# Altium footprint library CLAP.PcbLib: 265 footprints (part 11 of 17)
Each footprint in its own frame and in the unit in brackets; x right, y up, seen from the top. Pads: shape width x height; smd on the part's side, far side on the other; paste and mask are expansions set on the pad; w line width, h text height; cw(c..) or ccw(c..) is an arc to the next point about the centre after c.
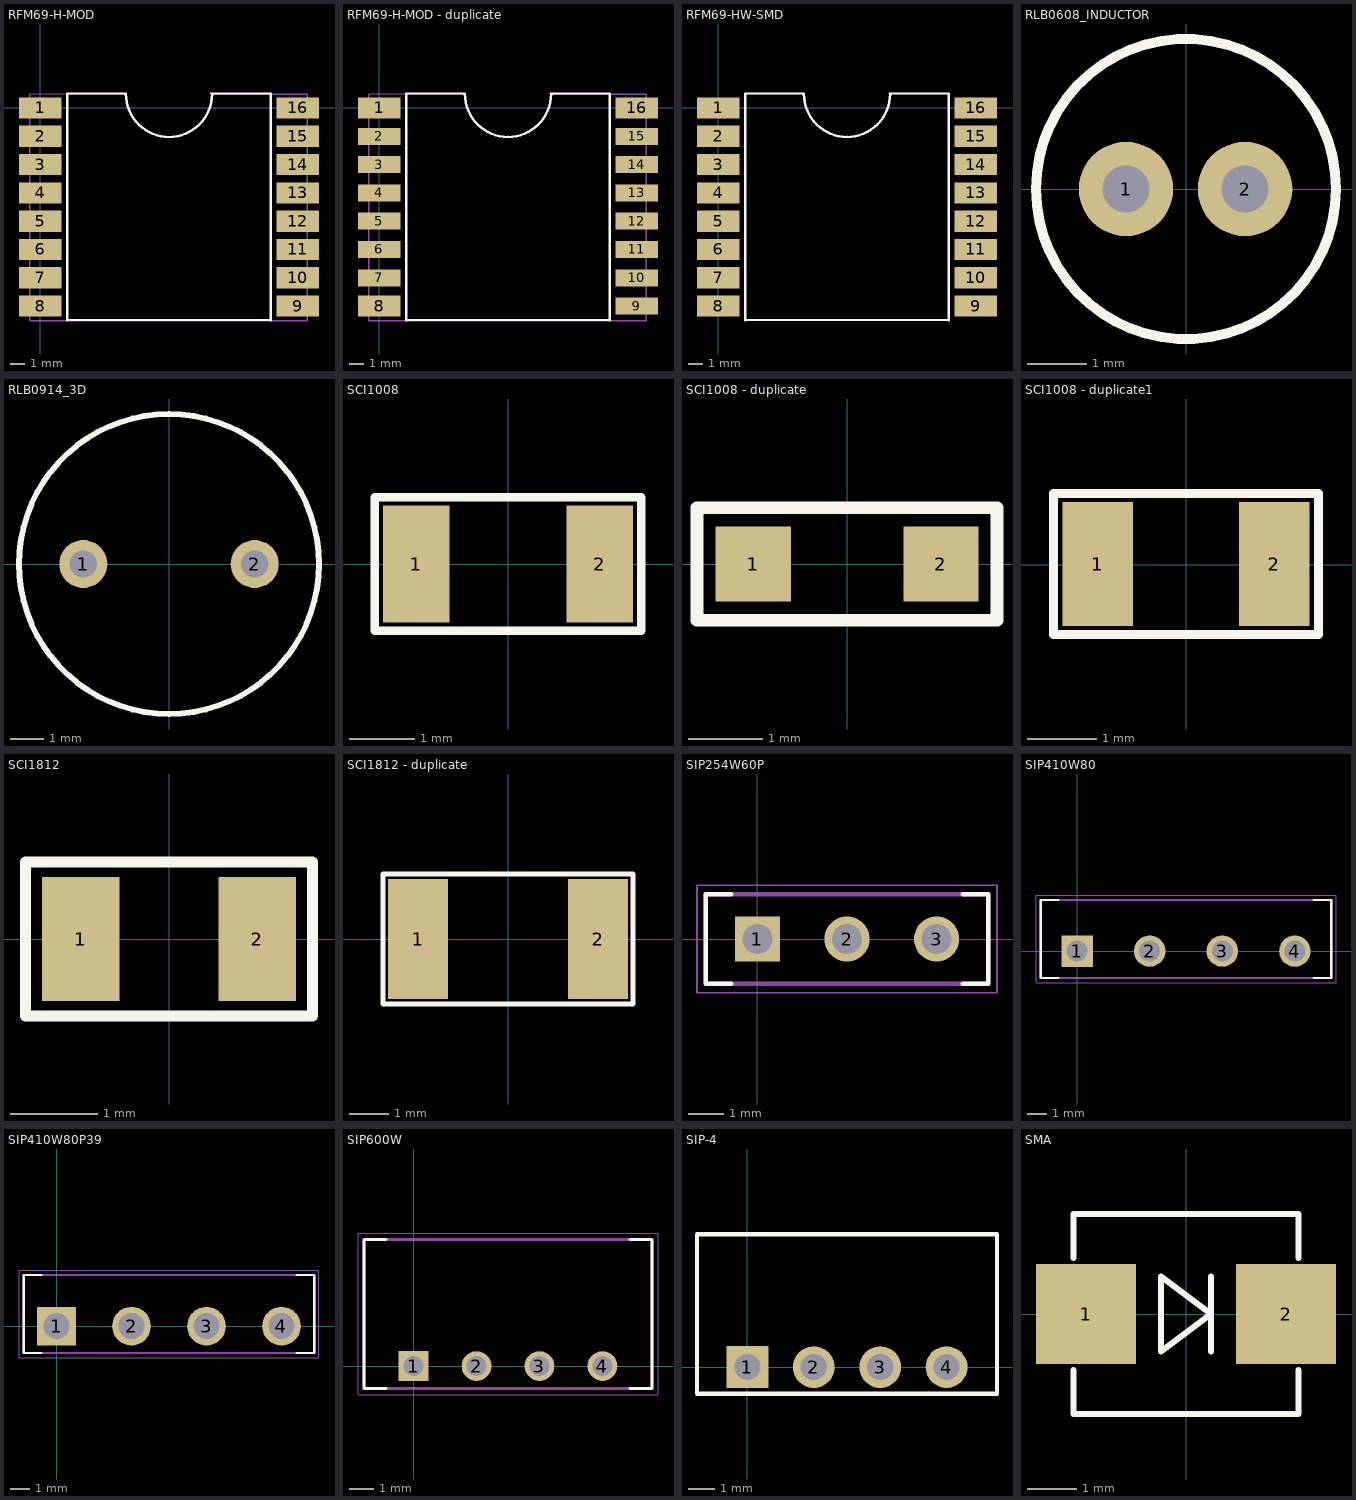
[diagram p10: the footprints below, top view; thin cyan lines are the x and y axes]

## RFM69-H-MOD [mm]
height 0.048
pads (16):
  rect 3x1.5 smd: 1(0,0) 2(0,-2) 3(0,-4) 4(0,-6) 5(0,-8) 6(0,-10) 7(0,-12) 8(0,-14) 9(18.2,-14) 10(18.2,-12) 11(18.2,-10) 12(18.2,-8) 13(18.2,-6) 14(18.2,-4) 15(18.2,-2) 16(18.2,0)
Top Overlay:
  lines w0.17: 1.9,-15 1.9,1 ; 1.9,-14.98 16.3,-14.98 ; 1.9,1.02 6,1.02 ; 6.052,1 ccw(c9.1,1) 12.148,1 ; 12.1,1.02 16.3,1.02 ; 16.3,-15 16.3,1
Mechanical 1:
  lines w0.1: 12.148,1 cw(c9.1,1) 6.052,1 -0.74,0.98 -0.74,-15.02 18.86,-15.02 18.86,0.98 12.16,0.98
3D body "RFM69W.STEP": height 1.9, standoff 0, extent -0.85,-15 18.85,1

## RFM69-H-MOD - duplicate [mm]
height 2
pads (16):
  rect 3x1.5 smd: 1(0,0) 8(0,-14) 16(18.2,0)
  rect 3x1.2 smd: 2(0,-2) 3(0,-4) 4(0,-6) 5(0,-8) 6(0,-10) 7(0,-12) 9(18.2,-14) 10(18.2,-12) 11(18.2,-10) 12(18.2,-8) 13(18.2,-6) 14(18.2,-4) 15(18.2,-2)
Top Overlay:
  lines w0.17: 1.9,-15 1.9,1 ; 1.9,-14.98 16.3,-14.98 ; 1.9,1.02 6,1.02 ; 6.052,1 ccw(c9.1,1) 12.148,1 ; 12.1,1.02 16.3,1.02 ; 16.3,-15 16.3,1
Mechanical 1:
  lines w0.1: 12.148,1 cw(c9.1,1) 6.052,1 -0.74,0.98 -0.74,-15.02 18.86,-15.02 18.86,0.98 12.16,0.98
3D body "RFM69W.STEP": height 1.9, standoff 0, extent -0.85,-15 18.85,1

## RFM69-HW-SMD [mm]
height 0.048
pads (16):
  rect 3x1.5 smd: 1(0,0) 2(0,-2) 3(0,-4) 4(0,-6) 5(0,-8) 6(0,-10) 7(0,-12) 8(0,-14) 9(18.2,-14) 10(18.2,-12) 11(18.2,-10) 12(18.2,-8) 13(18.2,-6) 14(18.2,-4) 15(18.2,-2) 16(18.2,0)
Top Overlay:
  lines w0.17: 1.9,-15 1.9,1 ; 1.9,-14.98 16.3,-14.98 ; 1.9,1.02 6,1.02 ; 6.052,1 ccw(c9.1,1) 12.148,1 ; 12.1,1.02 16.3,1.02 ; 16.3,-15 16.3,1
3D body "RFM69W.STEP": height 1.9, standoff 0, extent -0.85,-15 18.85,1

## RLB0608_INDUCTOR [mm]
height 0.165
pads (2):
  round 1.6 hole 0.8: 1(-1.016,0) 2(1,0)
Top Overlay:
  circle w0.17: c0,0 r2.54
Mechanical 1:
  circle w0.1: c0,0 r2.54

## RLB0914_3D [mil]
pads (2):
  round 56 hole 32: 1(-100,0) 2(100,0)
Top Overlay:
  circle w6.69: c0,0 r175
Mechanical 1:
  circle w3.94: c0,0 r175
3D body "INDRD508W55D850H1250.STEP": height 492.13, standoff -78.74, extent -167.32,-167.32 167.32,167.32

## SCI1008 [mil]
pads (2):
  rect 40x70 smd: 1(-55,0) 2(55,0)
Top Overlay:
  lines w5: -80,-40 80,-40 80,40 -80,40 -80,-40
3D body "L_1206_3216Metric.step": height 62.99, standoff 0, extent -62.99,-31.5 62.99,31.49

## SCI1008 - duplicate [mil]
pads (2):
  rect 40x40 smd: 1(-50,0) 2(50,0)
Top Overlay:
  lines w6.69: -80,-30 -80,30 80,30 80,-30 -80,-30
Mechanical 1:
  lines w3.94: -80,-30 -80,30 80,30 80,-30 -80,-30

## SCI1008 - duplicate1 [mil]
pads (2):
  rect 40x70 smd: 1(-50,0.5) 2(50,0.5)
Top Overlay:
  lines w5: -75,40 -75,-39.5 75,-39.5 75,40 ; -75,40.5 75,40.5
3D body "L_0805_2012Metric.step": height 49.21, standoff 0, extent -39.37,-24.6 39.37,24.61

## SCI1812 [mil]
pads (2):
  rect 35x56 smd: 1(-40,0) 2(40,0)
Top Overlay:
  lines w5: -65,-35 65,-35 65,35 -65,35 -65,-35
3D body "L_0805_2012Metric.step": height 49.21, standoff 0, extent -39.38,-24.61 39.36,24.6

## SCI1812 - duplicate [mil]
pads (2):
  rect 60x120 smd: 1(-90,0) 2(90,0)
Top Overlay:
  lines w5: -125,-65 -125,65 125,65 125,-65 -125,-65
3D body "L_1812_4532Metric.step": height 98.43, standoff 0, extent -88.58,-62.99 88.59,63

## SIP254W60P [mm] "SIP, 2.54 mm pitch; 3 pin, 8.00 mm L X 2.54 mm W X 7.00 mm H body"
height 7
pads (3):
  rect 1.28x1.28 hole 0.85 paste-1.28: 1(0,0)
  round 1.28 hole 0.85 paste-1.28: 2(2.54,0) 3(5.08,0)
Top Overlay:
  lines w0.12: -0.74,-1.27 -1.46,-1.27 -1.46,1.27 -0.74,1.27 ; 5.82,-1.27 6.54,-1.27 6.54,1.27 5.82,1.27
Mechanical 11:
  lines w0.12: -1.46,-1.27 6.54,-1.27 6.54,1.27 -1.46,1.27 -1.46,-1.27
Mechanical 12:
  circle w0.025: c5.08,0 r0.325
  circle w0.025: c2.54,0 r0.325
  circle w0.025: c0,0 r0.325
  lines w0.025: -1.46,-1.27 6.54,-1.27 6.54,1.27 -1.46,1.27 -1.46,-1.27
Mechanical 15:
  circle w0.05: c0,0 r0.25
  lines w0.05: -0.35,0 0.35,0 ; 0,-0.35 0,0.35 ; -1.71,-1.52 6.79,-1.52 6.79,1.52 -1.71,1.52 -1.71,-1.52
Mechanical 16:
  text ".Designator" at 0,0 h1.2
3D body "SIP254W60P.STEP": height 7, standoff -2, extent -1.46,-1.27 6.54,1.27

## SIP410W80 [mm] "SIP, 3.81 mm pitch; 4 pin, 15.24 mm L X 4.10 mm W X 11.70 mm H body"
height 11.7
pads (4):
  rect 1.65x1.65 hole 1.1 paste-1.65: 1(0,0)
  round 1.65 hole 1.1 paste-1.65: 2(3.81,0) 3(7.62,0) 4(11.43,0)
Top Overlay:
  lines w0.12: -0.975,-1.415 -1.905,-1.415 -1.905,2.685 -0.975,2.685 ; 12.405,-1.415 13.335,-1.415 13.335,2.685 12.405,2.685
Mechanical 11:
  lines w0.12: -1.905,-1.415 -1.905,2.685 13.335,2.685 13.335,-1.415 -1.905,-1.415
Mechanical 12:
  circle w0.025: c0,0 r0.45
  circle w0.025: c3.81,0 r0.45
  circle w0.025: c7.62,0 r0.45
  circle w0.025: c11.43,0 r0.45
  lines w0.025: -1.905,-1.415 -1.905,2.685 13.335,2.685 13.335,-1.415 -1.905,-1.415
Mechanical 15:
  circle w0.05: c0,0 r0.25
  lines w0.05: -0.35,0 0.35,0 ; 0,-0.35 0,0.35 ; -2.16,-1.67 -2.16,2.94 13.59,2.94 13.59,-1.67 -2.16,-1.67
Mechanical 16:
  text ".Designator" at 0,0 h1.2
3D body "SIP410W80.STEP": height 11.7, standoff -2, extent -1.905,-1.415 13.335,2.685

## SIP410W80P39 [mm] "SIP, 3.937 mm pitch; 4 pin, 15.24 mm L X 4.10 mm W X 11.70 mm H body"
height 11.7
pads (4):
  rect 2.03x2.03 hole 1.35 paste-2.03: 1(0,0)
  round 2.03 hole 1.35 paste-2.03: 2(3.937,0) 3(7.874,0) 4(11.811,0)
Top Overlay:
  lines w0.12: -0.784,-1.415 -1.714,-1.415 -1.714,2.685 -0.784,2.685 ; 12.595,-1.415 13.525,-1.415 13.525,2.685 12.595,2.685
Mechanical 11:
  lines w0.12: -1.714,-1.415 -1.714,2.685 13.525,2.685 13.525,-1.415 -1.714,-1.415
Mechanical 12:
  lines w0.025: -1.714,-1.415 -1.714,2.685 13.525,2.685 13.525,-1.415 -1.714,-1.415 ; -0.45,-0.4 0.45,-0.4 0.45,0.4 -0.45,0.4 -0.45,-0.4 ; 3.487,-0.4 4.387,-0.4 4.387,0.4 3.487,0.4 3.487,-0.4 ; 7.424,-0.4 8.324,-0.4 8.324,0.4 7.424,0.4 7.424,-0.4 ; 11.361,-0.4 12.261,-0.4 12.261,0.4 11.361,0.4 11.361,-0.4
Mechanical 15:
  circle w0.05: c0,0 r0.25
  lines w0.05: -0.35,0 0.35,0 ; 0,-0.35 0,0.35 ; -1.97,-1.67 -1.97,2.94 13.78,2.94 13.78,-1.67 -1.97,-1.67
Mechanical 16:
  text ".Designator" at 0,0 h1.2
3D body "SIP410W80P39.STEP": height 11.7, standoff -2, extent -1.714,-1.415 13.525,2.685

## SIP600W [mm] "SIP, 2.54 mm pitch; 4 pin, 11.60 mm L X 6.00 mm W X 10.20 mm H body"
height 10.2
pads (4):
  rect 1.2x1.2 hole 0.8 paste-1.2: 1(0,0)
  round 1.2 hole 0.8 paste-1.2: 2(2.54,0) 3(5.08,0) 4(7.62,0)
Top Overlay:
  lines w0.12: -1.11,-0.9 -1.99,-0.9 -1.99,5.1 -1.11,5.1 ; 8.73,-0.9 9.61,-0.9 9.61,5.1 8.73,5.1
Mechanical 11:
  lines w0.12: -1.99,-0.9 9.61,-0.9 9.61,5.1 -1.99,5.1 -1.99,-0.9
Mechanical 12:
  circle w0.025: c7.62,0 r0.3
  circle w0.025: c5.08,0 r0.3
  circle w0.025: c2.54,0 r0.3
  circle w0.025: c0,0 r0.3
  lines w0.025: -1.99,-0.9 9.61,-0.9 9.61,5.1 -1.99,5.1 -1.99,-0.9
Mechanical 15:
  circle w0.05: c0,0 r0.25
  lines w0.05: -0.35,0 0.35,0 ; 0,-0.35 0,0.35 ; -2.24,-1.15 9.86,-1.15 9.86,5.35 -2.24,5.35 -2.24,-1.15
Mechanical 16:
  text ".Designator" at 0,0 h1.2
3D body "SIP600W.STEP": height 10.2, standoff -2, extent -1.99,-0.9 9.61,5.1

## SIP-4 [mm]
height 0.259
pads (4):
  rect 1.6x1.6 hole 1: 1(0,0)
  round 1.6 hole 1: 2(2.54,0) 3(5.08,0) 4(7.62,0)
Top Overlay:
  lines w0.17: -1.93,-1.016 -1.93,5.08 9.55,5.08 9.55,-1.016 -1.93,-1.016
Mechanical 1:
  lines w0.1: -1.93,-1.016 -1.93,5.08 9.55,5.08 9.55,-1.016 -1.93,-1.016
3D body "Converter_DCDC_muRata_CRE1xxxxxx3C_THT.step": height 7.72, standoff -4, extent -2.07,-1.25 9.46,4.85

## SMA [mil]
pads (2):
  rect 80x80 smd: 1(-80,0) 2(80,0)
Top Overlay:
  lines w5: -90,-45 -90,-80 90,-80 90,-45 ; -90,45 -90,80 90,80 90,45 ; 20,-30 20,30 ; -20,-30 -20,30 20,0 -20,-30
3D body "D_SMB.step": height 84.65, standoff 0, extent -104.34,-69.88 104.32,69.88